# EAGLE library part LORA_MODULE (library sx1278)
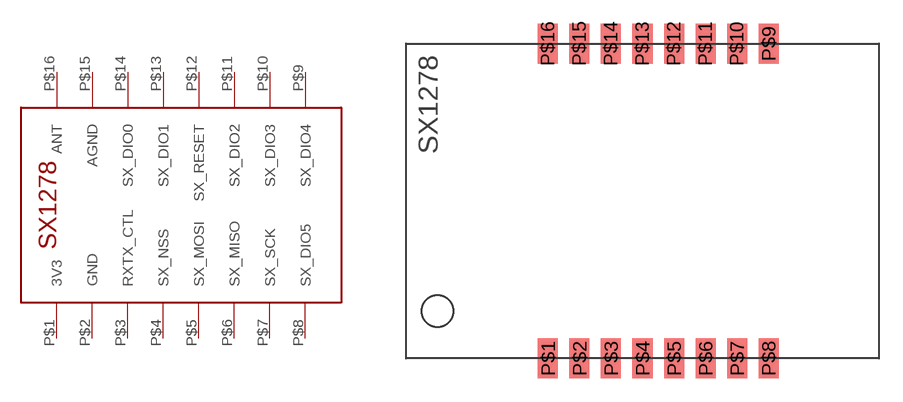
[diagram p0: symbol with the pads of LORA_MODULE; footprint LORA_MODULE]

Designator prefix -

## LORA_MODULE  [LORA_MODULE]
P$1  3V3
P$2  GND
P$3  RXTX_CTL
P$4  SX_NSS
P$5  SX_MOSI
P$6  SX_MISO
P$7  SX_SCK
P$8  SX_DIO5
P$9  SX_DIO4
P$10  SX_DIO3
P$11  SX_DIO2
P$12  SX_RESET
P$13  SX_DIO1
P$14  SX_DIO0
P$15  AGND
P$16  ANT

## Footprint LORA_MODULE (pad centres in mm)
smd 1.27 x 2.54: P$1 9,0; P$2 11,0; P$3 13,0; P$4 15,0; P$5 17,0; P$6 19,0; P$7 21,0; P$8 23,0; P$9 23,20; P$10 21,20; P$11 19,20; P$12 17,20; P$13 15,20; P$14 13,20; P$15 11,20; P$16 9,20